# EAGLE library part SN74AUP2G14DCKR (library SN74AUP2G14DCKR)
Low-Power Dual Schmitt-Trigger Inverter Source: Datasheet <http://www.ti.com/lit/ds/symlink/sn74aup2g14.pdf>
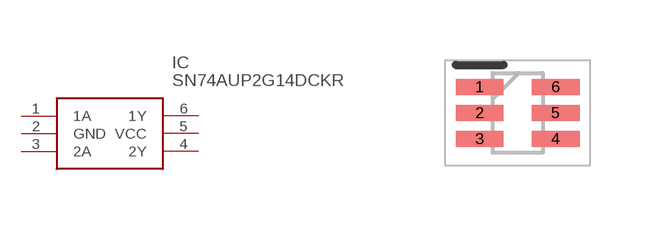
[diagram p0: symbol with the pads of SOT65P210X110-6N; footprint SOT65P210X110-6N]

Designator prefix IC

## SN74AUP2G14DCKR (Description: Low-Power Dual Schmitt-Trigger Inverter; Height: 1.1mm; Manufacturer_Name: Texas Instruments; Manufacturer_Part_Number: SN74AUP2G14DCKR; Mouser_Part_Number: 595-SN74AUP2G14DCKR; Mouser_Price-Stock: https://www.mouser.co.uk/ProductDetail/Texas-Instruments/SN74AUP2G14DCKR?qs=EuM%2FBx4ov4QTOJAKFTdFxA%3D%3D)  [SOT65P210X110-6N]
1  1A
2  GND  pwr
3  2A
4  2Y
5  VCC  pwr
6  1Y

## Footprint SOT65P210X110-6N (pad centres in mm)
DCK (R-PDSO-G6)
smd 1.2 x 0.4: 1 -0.95,0.65; 2 -0.95,0; 3 -0.95,-0.65; 4 0.95,-0.65; 5 0.95,0; 6 0.95,0.65